# Altium footprint library sshi.PcbLib: 30 footprints (part 2 of 2)
Each footprint in its own frame and in the unit in brackets; x right, y up, seen from the top. Pads: shape width x height; smd on the part's side, far side on the other; paste and mask are expansions set on the pad; w line width, h text height; cw(c..) or ccw(c..) is an arc to the next point about the centre after c.
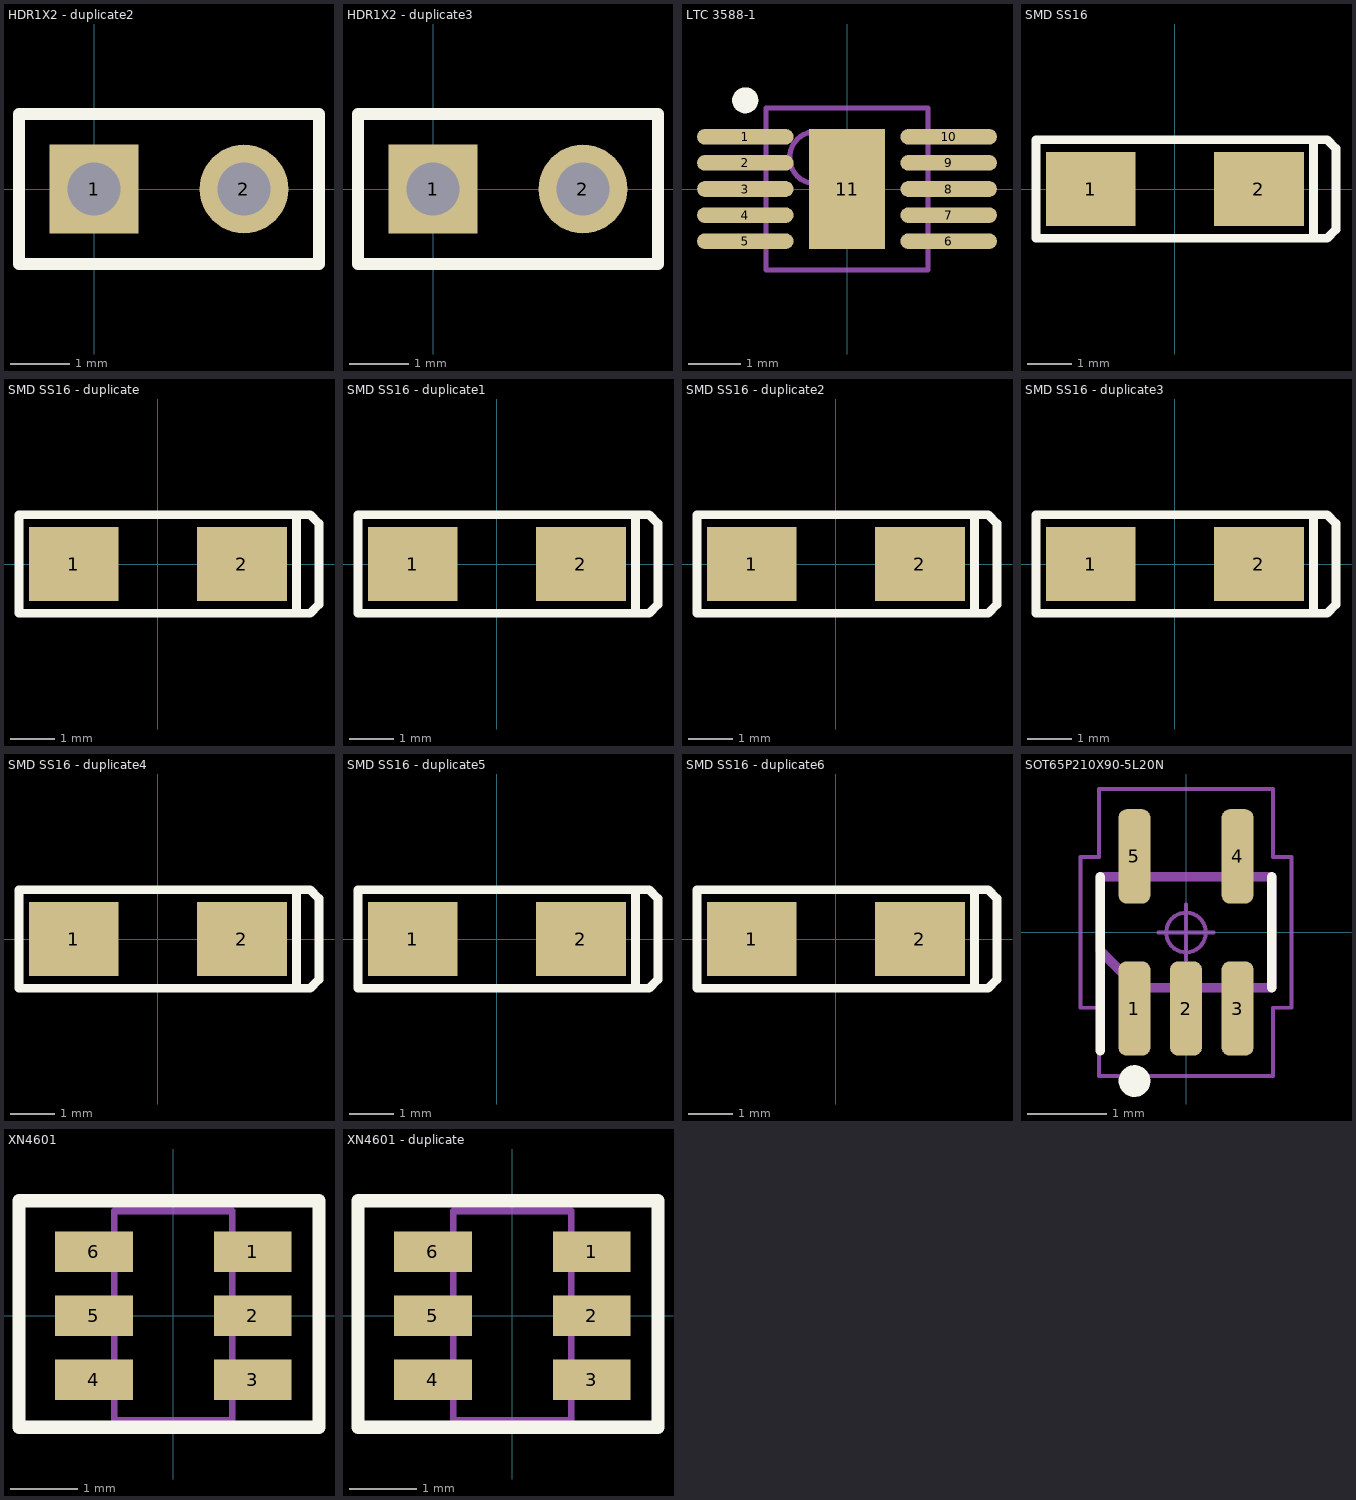
[diagram p1: the footprints below, top view; thin cyan lines are the x and y axes]

## HDR1X2 - duplicate2 [mm] "Connector; Header; 2 Position"
height 2.54
pads (2):
  rect 1.5x1.5 hole 0.9: 1(0,0)
  round 1.5 hole 0.9: 2(2.54,0)
Top Overlay:
  lines w0.2: -1.27,-1.27 -1.27,1.27 3.81,1.27 3.81,-1.27 -1.27,-1.27

## HDR1X2 - duplicate3 [mm] "Connector; Header; 2 Position"
height 2.54
pads (2):
  rect 1.5x1.5 hole 0.9: 1(0,0)
  round 1.5 hole 0.9: 2(2.54,0)
Top Overlay:
  lines w0.2: -1.27,-1.27 -1.27,1.27 3.81,1.27 3.81,-1.27 -1.27,-1.27

## LTC 3588-1 [mm] "10-Lead Plastic MSOP"
height 1.1
pads (11):
  oval 1.85x0.3 smd: 1(-1.95,1) 2(-1.95,0.5) 3(-1.95,0) 4(-1.95,-0.5) 5(-1.95,-1) 6(1.95,-1) 7(1.95,-0.5) 8(1.95,0) 9(1.95,0.5) 10(1.95,1)
  rect 1.45x2.3 smd: 11(0,0)
Top Overlay:
  circle w0.25: c-1.95,1.7 r0.125
Mechanical 13:
  circle w0.1: c-0.6,0.6 r0.5
  lines w0.1: -1.55,-1.55 -1.55,1.55 1.55,1.55 1.55,-1.55 -1.55,-1.55
Mechanical 15:
  lines w0.1: -0.5,0 0.5,0 ; 0,-0.5 0,0.5
3D body: height 1.1, standoff 0.18, extent -1.55,-1.55 1.55,1.55

## SMD SS16 [mm]
pads (2):
  rect 2x1.65 smd: 1(-1.88,0) 2(1.88,0)
Top Overlay:
  lines w0.2: 3.1,-1.1 -3.1,-1.1 -3.1,1.1 3.1,1.1 ; 3.1,-1.1 3.1,1.1 ; 3.1,-1.1 3.4,-1.1 3.6,-0.9 3.6,0.9 3.4,1.1 3.1,1.1

## SMD SS16 - duplicate [mm]
pads (2):
  rect 2x1.65 smd: 1(-1.88,0) 2(1.88,0)
Top Overlay:
  lines w0.2: 3.1,-1.1 -3.1,-1.1 -3.1,1.1 3.1,1.1 ; 3.1,-1.1 3.1,1.1 ; 3.1,-1.1 3.4,-1.1 3.6,-0.9 3.6,0.9 3.4,1.1 3.1,1.1

## SMD SS16 - duplicate1 [mm]
pads (2):
  rect 2x1.65 smd: 1(-1.88,0) 2(1.88,0)
Top Overlay:
  lines w0.2: 3.1,-1.1 3.4,-1.1 3.6,-0.9 3.6,0.9 3.4,1.1 3.1,1.1 ; 3.1,-1.1 3.1,1.1 ; 3.1,-1.1 -3.1,-1.1 -3.1,1.1 3.1,1.1

## SMD SS16 - duplicate2 [mm]
pads (2):
  rect 2x1.65 smd: 1(-1.88,0) 2(1.88,0)
Top Overlay:
  lines w0.2: 3.1,-1.1 3.4,-1.1 3.6,-0.9 3.6,0.9 3.4,1.1 3.1,1.1 ; 3.1,-1.1 3.1,1.1 ; 3.1,-1.1 -3.1,-1.1 -3.1,1.1 3.1,1.1

## SMD SS16 - duplicate3 [mm]
pads (2):
  rect 2x1.65 smd: 1(-1.88,0) 2(1.88,0)
Top Overlay:
  lines w0.2: 3.1,-1.1 3.4,-1.1 3.6,-0.9 3.6,0.9 3.4,1.1 3.1,1.1 ; 3.1,-1.1 3.1,1.1 ; 3.1,-1.1 -3.1,-1.1 -3.1,1.1 3.1,1.1

## SMD SS16 - duplicate4 [mm]
pads (2):
  rect 2x1.65 smd: 1(-1.88,0) 2(1.88,0)
Top Overlay:
  lines w0.2: 3.1,-1.1 3.4,-1.1 3.6,-0.9 3.6,0.9 3.4,1.1 3.1,1.1 ; 3.1,-1.1 3.1,1.1 ; 3.1,-1.1 -3.1,-1.1 -3.1,1.1 3.1,1.1

## SMD SS16 - duplicate5 [mm]
pads (2):
  rect 2x1.65 smd: 1(-1.88,0) 2(1.88,0)
Top Overlay:
  lines w0.2: 3.1,-1.1 3.4,-1.1 3.6,-0.9 3.6,0.9 3.4,1.1 3.1,1.1 ; 3.1,-1.1 3.1,1.1 ; 3.1,-1.1 -3.1,-1.1 -3.1,1.1 3.1,1.1

## SMD SS16 - duplicate6 [mm]
height 2.54
pads (2):
  rect 2x1.65 smd: 1(-1.88,0) 2(1.88,0)
Top Overlay:
  lines w0.2: 3.1,-1.1 3.4,-1.1 3.6,-0.9 3.6,0.9 3.4,1.1 3.1,1.1 ; 3.1,-1.1 3.1,1.1 ; 3.1,-1.1 -3.1,-1.1 -3.1,1.1 3.1,1.1

## SOT65P210X90-5L20N [mm] "Small Outline Transistor (SOT23), 0.65 mm pitch; 5 pin, 2.00 mm L X 1.25 mm W X 0.90 mm H body"
height 0.9
pads (5):
  rrect50% 0.4x1.19 smd: 1(-0.65,-0.96) 2(0,-0.96) 3(0.65,-0.96) 4(0.65,0.96) 5(-0.65,0.96)
Top Overlay:
  circle w0.2: c-0.65,-1.875 r0.1
  lines w0.12: -1.08,-1.495 -1.08,0.7 ; 1.08,-0.7 1.08,0.7
Mechanical 11:
  lines w0.12: -1.08,-0.233 -1.08,0.7 1.08,0.7 1.08,-0.7 -0.613,-0.7 -1.08,-0.233
Mechanical 15:
  circle w0.05: c0,0 r0.25
  lines w0.05: -0.35,0 0.35,0 ; 0,-0.35 0,0.35 ; -1.33,-0.95 -1.33,0.95 -1.1,0.95 -1.1,1.81 1.1,1.81 1.1,0.95 1.33,0.95 1.33,-0.95 1.1,-0.95 1.1,-1.81 -1.1,-1.81 -1.1,-0.95 -1.33,-0.95

## XN4601 [mm] "Composite N-type & P-type Transistors"
height 1.3
pads (6):
  rect 1.15x0.6 smd: 1(1.175,0.95) 2(1.175,0) 3(1.175,-0.95) 4(-1.175,-0.95) 5(-1.175,0) 6(-1.175,0.95)
Top Overlay:
  lines w0.2: -2.286,-1.651 2.159,-1.651 2.159,1.7 -2.286,1.7 -2.286,-1.651
  text "." at 1.2,1.6 h0.6
Mechanical 13:
  lines w0.1: -0.875,-1.55 -0.875,1.55 0.875,1.55 0.875,-1.55 -0.875,-1.55
3D body: height 1.3, standoff 0.1, extent -0.875,-1.55 0.875,1.55

## XN4601 - duplicate [mm] "Composite N-type & P-type Transistors"
height 1.3
pads (6):
  rect 1.15x0.6 smd: 1(1.175,0.95) 2(1.175,0) 3(1.175,-0.95) 4(-1.175,-0.95) 5(-1.175,0) 6(-1.175,0.95)
Top Overlay:
  lines w0.2: -2.286,-1.651 2.159,-1.651 2.159,1.7 -2.286,1.7 -2.286,-1.651
  text "." at 1.2,1.6 h0.6
Mechanical 13:
  lines w0.1: -0.875,-1.55 -0.875,1.55 0.875,1.55 0.875,-1.55 -0.875,-1.55
3D body: height 1.3, standoff 0.1, extent -0.875,-1.55 0.875,1.55